# Altium schematic symbol library WR-PHD_Socket Header_1.27mm.SchLib: 24 symbols
Pins are listed as number, name and electrical type; pins without a type are passive.

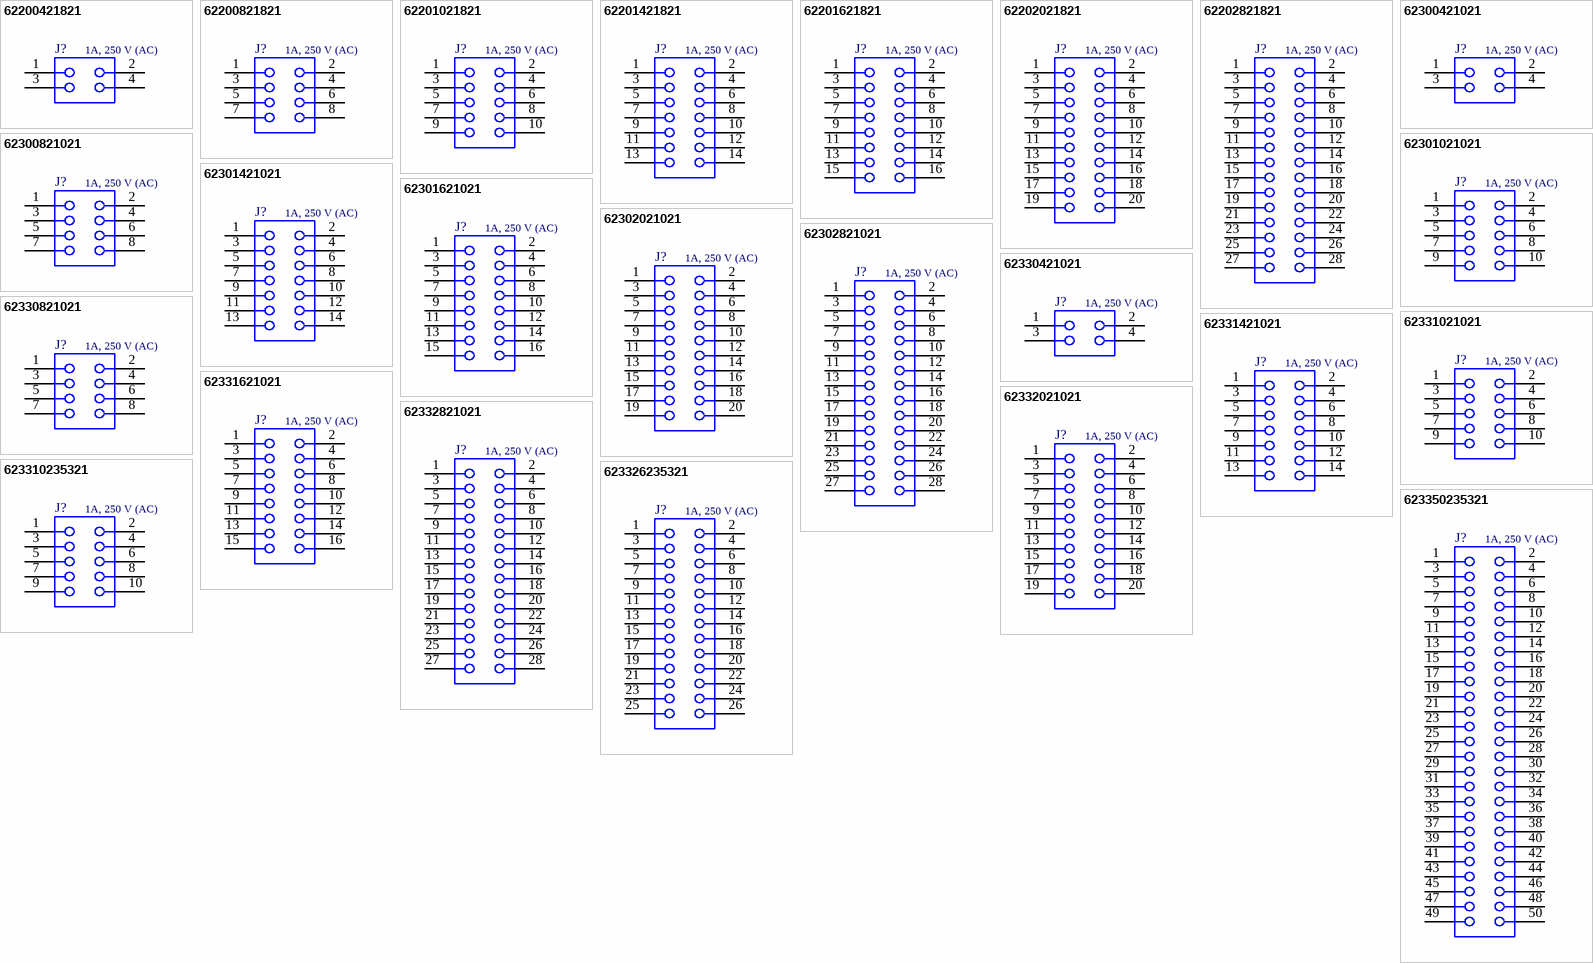
[diagram p0: symbols 62200421821 to 623350235321]

## 62200421821
designator J?, comment 1A, 250 V (AC)
WR-PHD Socket Header, THT, pitch 1.27mm, Dual Row, Vertical, 4p; Manufacturer Part Number: 62200421821; Manufacturer: Wurth Elektronik; Pin Number: 4; Working Voltage: 250VAC; Withstanding Voltage: 500VAC; Contact Resistance: 20mOhm; ComponentLink1Description: Datasheet; ComponentLink1URL: https://www.we-online.com/catalog/datasheet/62200421821.pdf; Published Date: May 2020; Pitch: 1.27mm; Packaging: Tube; Gender: Socket Header; Rated Current: 1A; Row Number: Dual; Orientation: Vertical; Supplier 1 URL: N/A; Supplier 2 URL: N/A; Supplier 3 URL: N/A; LCSC Part #: N/A; Mount: THT; Operating Temperature Max: + 85 C; Operating Temperature Min: - 25 C; Supplier 1: Mouser; Supplier 1 Part Number: N/A; Supplier 2: Digi-Key; Supplier 2 Part Number: N/A; Supplier 3: thegioiic; Supplier 3 Part Number: N/A; Value: 1A, 250 V (AC)
footprint 62200421821
pins: 1, 2, 3, 4

## 62200821821
designator J?, comment 1A, 250 V (AC)
WR-PHD Socket Header, THT, pitch 1.27mm, Dual Row, Vertical, 8p; Manufacturer Part Number: 62200821821; Manufacturer: Wurth Elektronik; Pin Number: 8; Working Voltage: 250VAC; Withstanding Voltage: 500VAC; Contact Resistance: 20mOhm; ComponentLink1Description: Datasheet; ComponentLink1URL: https://www.we-online.com/catalog/datasheet/62200821821.pdf; Published Date: May 2020; Pitch: 1.27mm; Packaging: Tube; Gender: Socket Header; Rated Current: 1A; Row Number: Dual; Orientation: Vertical; Supplier 1 URL: N/A; Supplier 2 URL: N/A; Supplier 3 URL: N/A; LCSC Part #: N/A; Mount: THT; Operating Temperature Max: + 85 C; Operating Temperature Min: - 25 C; Supplier 1: Mouser; Supplier 1 Part Number: N/A; Supplier 2: Digi-Key; Supplier 2 Part Number: N/A; Supplier 3: thegioiic; Supplier 3 Part Number: N/A; Value: 1A, 250 V (AC)
footprint 62200821821
pins: 1, 2, 3, 4, 5, 6, 7, 8

## 62201021821
designator J?, comment 1A, 250 V (AC)
WR-PHD Socket Header, THT, pitch 1.27mm, Dual Row, Vertical, 10p; Manufacturer Part Number: 62201021821; Manufacturer: Wurth Elektronik; Pin Number: 10; Working Voltage: 250VAC; Withstanding Voltage: 500VAC; Contact Resistance: 20mOhm; ComponentLink1Description: Datasheet; ComponentLink1URL: https://www.we-online.com/catalog/datasheet/62201021821.pdf; Published Date: May 2020; Pitch: 1.27mm; Packaging: Tube; Gender: Socket Header; Rated Current: 1A; Row Number: Dual; Orientation: Vertical; Supplier 1 URL: N/A; Supplier 2 URL: N/A; Supplier 3 URL: N/A; LCSC Part #: N/A; Mount: THT; Operating Temperature Max: + 85 C; Operating Temperature Min: - 25 C; Supplier 1: Mouser; Supplier 1 Part Number: N/A; Supplier 2: Digi-Key; Supplier 2 Part Number: N/A; Supplier 3: thegioiic; Supplier 3 Part Number: N/A; Value: 1A, 250 V (AC)
footprint 62201021821
pins: 1, 2, 3, 4, 5, 6, 7, 8, 9, 10

## 62201421821
designator J?, comment 1A, 250 V (AC)
WR-PHD Socket Header, THT, pitch 1.27mm, Dual Row, Vertical, 14p; Manufacturer Part Number: 62201421821; Manufacturer: Wurth Elektronik; Pin Number: 14; Working Voltage: 250VAC; Withstanding Voltage: 500VAC; Contact Resistance: 20mOhm; ComponentLink1Description: Datasheet; ComponentLink1URL: https://www.we-online.com/catalog/datasheet/62201421821.pdf; Published Date: May 2020; Pitch: 1.27mm; Packaging: Tube; Gender: Socket Header; Rated Current: 1A; Row Number: Dual; Orientation: Vertical; Supplier 1 URL: N/A; Supplier 2 URL: N/A; Supplier 3 URL: N/A; LCSC Part #: N/A; Mount: THT; Operating Temperature Max: + 85 C; Operating Temperature Min: - 25 C; Supplier 1: Mouser; Supplier 1 Part Number: N/A; Supplier 2: Digi-Key; Supplier 2 Part Number: N/A; Supplier 3: thegioiic; Supplier 3 Part Number: N/A; Value: 1A, 250 V (AC)
footprint 62201421821
pins: 1, 2, 3, 4, 5, 6, 7, 8, 9, 10, 11, 12, 13, 14

## 62201621821
designator J?, comment 1A, 250 V (AC)
WR-PHD Socket Header, THT, pitch 1.27mm, Dual Row, Vertical, 16p; Manufacturer Part Number: 62201621821; Manufacturer: Wurth Elektronik; Pin Number: 16; Working Voltage: 250VAC; Withstanding Voltage: 500VAC; Contact Resistance: 20mOhm; ComponentLink1Description: Datasheet; ComponentLink1URL: https://www.we-online.com/catalog/datasheet/62201621821.pdf; Published Date: May 2020; Pitch: 1.27mm; Packaging: Tube; Gender: Socket Header; Rated Current: 1A; Row Number: Dual; Orientation: Vertical; Supplier 1 URL: N/A; Supplier 2 URL: N/A; Supplier 3 URL: N/A; LCSC Part #: N/A; Mount: THT; Operating Temperature Max: + 85 C; Operating Temperature Min: - 25 C; Supplier 1: Mouser; Supplier 1 Part Number: N/A; Supplier 2: Digi-Key; Supplier 2 Part Number: N/A; Supplier 3: thegioiic; Supplier 3 Part Number: N/A; Value: 1A, 250 V (AC)
footprint 62201621821
pins: 1, 2, 3, 4, 5, 6, 7, 8, 9, 10, 11, 12, 13, 14, 15, 16

## 62202021821
designator J?, comment 1A, 250 V (AC)
WR-PHD Socket Header, THT, pitch 1.27mm, Dual Row, Vertical, 20p; Manufacturer Part Number: 62202021821; Manufacturer: Wurth Elektronik; Pin Number: 20; Working Voltage: 250VAC; Withstanding Voltage: 500VAC; Contact Resistance: 20mOhm; ComponentLink1Description: Datasheet; ComponentLink1URL: https://www.we-online.com/catalog/datasheet/62202021821.pdf; Published Date: May 2020; Pitch: 1.27mm; Packaging: Tube; Gender: Socket Header; Rated Current: 1A; Row Number: Dual; Orientation: Vertical; Supplier 1 URL: N/A; Supplier 2 URL: N/A; Supplier 3 URL: N/A; LCSC Part #: N/A; Mount: THT; Operating Temperature Max: + 85 C; Operating Temperature Min: - 25 C; Supplier 1: Mouser; Supplier 1 Part Number: N/A; Supplier 2: Digi-Key; Supplier 2 Part Number: N/A; Supplier 3: thegioiic; Supplier 3 Part Number: N/A; Value: 1A, 250 V (AC)
footprint 62202021821
pins: 1, 2, 3, 4, 5, 6, 7, 8, 9, 10, 11, 12, 13, 14, 15, 16, 17, 18, 19, 20

## 62202821821
designator J?, comment 1A, 250 V (AC)
WR-PHD Socket Header, THT, pitch 1.27mm, Dual Row, Vertical, 28p; Manufacturer Part Number: 62202821821; Manufacturer: Wurth Elektronik; Pin Number: 28; Working Voltage: 250VAC; Withstanding Voltage: 500VAC; Contact Resistance: 20mOhm; ComponentLink1Description: Datasheet; ComponentLink1URL: https://www.we-online.com/catalog/datasheet/62202821821.pdf; Published Date: May 2020; Pitch: 1.27mm; Packaging: Tube; Gender: Socket Header; Rated Current: 1A; Row Number: Dual; Orientation: Vertical; Supplier 1 URL: N/A; Supplier 2 URL: N/A; Supplier 3 URL: N/A; LCSC Part #: N/A; Mount: THT; Operating Temperature Max: + 85 C; Operating Temperature Min: - 25 C; Supplier 1: Mouser; Supplier 1 Part Number: N/A; Supplier 2: Digi-Key; Supplier 2 Part Number: N/A; Supplier 3: thegioiic; Supplier 3 Part Number: N/A; Value: 1A, 250 V (AC)
footprint 62202821821
pins: 1, 2, 3, 4, 5, 6, 7, 8, 9, 10, 11, 12, 13, 14, 15, 16, 17, 18, 19, 20, 21, 22, 23, 24, 25, 26, 27, 28

## 62300421021
designator J?, comment 1A, 250 V (AC)
WR-PHD Socket Header, SMT, pitch 1.27mm, Dual Row, Vertical, 4p; Manufacturer Part Number: 62300421021; Manufacturer: Wurth Elektronik; Pin Number: 4; Working Voltage: 250VAC; Withstanding Voltage: 500VAC; Contact Resistance: 20mOhm; ComponentLink1Description: Datasheet; ComponentLink1URL: https://www.we-online.com/catalog/datasheet/62300421021.pdf; Published Date: May 2020; Pitch: 1.27mm; Packaging: Tube; Gender: Socket Header; Rated Current: 1A; Row Number: Dual; Orientation: Vertical; Supplier 1 URL: N/A; Supplier 2 URL: N/A; Supplier 3 URL: N/A; LCSC Part #: N/A; Mount: SMD/SMT; Operating Temperature Max: + 85 C; Operating Temperature Min: - 25 C; Supplier 1: Mouser; Supplier 1 Part Number: N/A; Supplier 2: Digi-Key; Supplier 2 Part Number: N/A; Supplier 3: thegioiic; Supplier 3 Part Number: N/A; Value: 1A, 250 V (AC)
footprint 62300421021
pins: 1, 2, 3, 4

## 62300821021
designator J?, comment 1A, 250 V (AC)
WR-PHD Socket Header, SMT, pitch 1.27mm, Dual Row, Vertical, 8p; Manufacturer Part Number: 62300821021; Manufacturer: Wurth Elektronik; Pin Number: 8; Working Voltage: 250VAC; Withstanding Voltage: 500VAC; Contact Resistance: 20mOhm; ComponentLink1Description: Datasheet; ComponentLink1URL: https://www.we-online.com/catalog/datasheet/62300821021.pdf; Published Date: May 2020; Pitch: 1.27mm; Packaging: Tube; Gender: Socket Header; Rated Current: 1A; Row Number: Dual; Orientation: Vertical; Supplier 1 URL: N/A; Supplier 2 URL: N/A; Supplier 3 URL: N/A; LCSC Part #: N/A; Mount: SMD/SMT; Operating Temperature Max: + 85 C; Operating Temperature Min: - 25 C; Supplier 1: Mouser; Supplier 1 Part Number: N/A; Supplier 2: Digi-Key; Supplier 2 Part Number: N/A; Supplier 3: thegioiic; Supplier 3 Part Number: N/A; Value: 1A, 250 V (AC)
footprint 62300821021
pins: 1, 2, 3, 4, 5, 6, 7, 8

## 62301021021
designator J?, comment 1A, 250 V (AC)
WR-PHD Socket Header, SMT, pitch 1.27mm, Dual Row, Vertical, 10p; Manufacturer Part Number: 62301021021; Manufacturer: Wurth Elektronik; Pin Number: 10; Working Voltage: 250VAC; Withstanding Voltage: 500VAC; Contact Resistance: 20mOhm; ComponentLink1Description: Datasheet; ComponentLink1URL: https://www.we-online.com/catalog/datasheet/62301021021.pdf; Published Date: May 2020; Pitch: 1.27mm; Packaging: Tube; Gender: Socket Header; Rated Current: 1A; Row Number: Dual; Orientation: Vertical; Supplier 1 URL: N/A; Supplier 2 URL: N/A; Supplier 3 URL: N/A; LCSC Part #: N/A; Mount: SMD/SMT; Operating Temperature Max: + 85 C; Operating Temperature Min: - 25 C; Supplier 1: Mouser; Supplier 1 Part Number: N/A; Supplier 2: Digi-Key; Supplier 2 Part Number: N/A; Supplier 3: thegioiic; Supplier 3 Part Number: N/A; Value: 1A, 250 V (AC)
footprint 62301021021
pins: 1, 2, 3, 4, 5, 6, 7, 8, 9, 10

## 62301421021
designator J?, comment 1A, 250 V (AC)
WR-PHD Socket Header, SMT, pitch 1.27mm, Dual Row, Vertical, 14p; Manufacturer Part Number: 62301421021; Manufacturer: Wurth Elektronik; Pin Number: 14; Working Voltage: 250VAC; Withstanding Voltage: 500VAC; Contact Resistance: 20mOhm; ComponentLink1Description: Datasheet; ComponentLink1URL: https://www.we-online.com/catalog/datasheet/62301421021.pdf; Published Date: May 2020; Pitch: 1.27mm; Packaging: Tube; Gender: Socket Header; Rated Current: 1A; Row Number: Dual; Orientation: Vertical; Supplier 1 URL: N/A; Supplier 2 URL: N/A; Supplier 3 URL: N/A; LCSC Part #: N/A; Mount: SMD/SMT; Operating Temperature Max: + 85 C; Operating Temperature Min: - 25 C; Supplier 1: Mouser; Supplier 1 Part Number: N/A; Supplier 2: Digi-Key; Supplier 2 Part Number: N/A; Supplier 3: thegioiic; Supplier 3 Part Number: N/A; Value: 1A, 250 V (AC)
footprint 62301421021
pins: 1, 2, 3, 4, 5, 6, 7, 8, 9, 10, 11, 12, 13, 14

## 62301621021
designator J?, comment 1A, 250 V (AC)
WR-PHD Socket Header, SMT, pitch 1.27mm, Dual Row, Vertical, 16p; Manufacturer Part Number: 62301621021; Manufacturer: Wurth Elektronik; Pin Number: 16; Working Voltage: 250VAC; Withstanding Voltage: 500VAC; Contact Resistance: 20mOhm; ComponentLink1Description: Datasheet; ComponentLink1URL: https://www.we-online.com/catalog/datasheet/62301621021.pdf; Published Date: May 2020; Pitch: 1.27mm; Packaging: Tube; Gender: Socket Header; Rated Current: 1A; Row Number: Dual; Orientation: Vertical; Supplier 1 URL: N/A; Supplier 2 URL: N/A; Supplier 3 URL: N/A; LCSC Part #: N/A; Mount: SMD/SMT; Operating Temperature Max: + 85 C; Operating Temperature Min: - 25 C; Supplier 1: Mouser; Supplier 1 Part Number: N/A; Supplier 2: Digi-Key; Supplier 2 Part Number: N/A; Supplier 3: thegioiic; Supplier 3 Part Number: N/A; Value: 1A, 250 V (AC)
footprint 62301621021
pins: 1, 2, 3, 4, 5, 6, 7, 8, 9, 10, 11, 12, 13, 14, 15, 16

## 62302021021
designator J?, comment 1A, 250 V (AC)
WR-PHD Socket Header, SMT, pitch 1.27mm, Dual Row, Vertical, 20p; Manufacturer Part Number: 62302021021; Manufacturer: Wurth Elektronik; Pin Number: 20; Working Voltage: 250VAC; Withstanding Voltage: 500VAC; Contact Resistance: 20mOhm; ComponentLink1Description: Datasheet; ComponentLink1URL: https://www.we-online.com/catalog/datasheet/62302021021.pdf; Published Date: May 2020; Pitch: 1.27mm; Packaging: Tube; Gender: Socket Header; Rated Current: 1A; Row Number: Dual; Orientation: Vertical; Supplier 1 URL: N/A; Supplier 2 URL: N/A; Supplier 3 URL: N/A; LCSC Part #: N/A; Mount: SMD/SMT; Operating Temperature Max: + 85 C; Operating Temperature Min: - 25 C; Supplier 1: Mouser; Supplier 1 Part Number: N/A; Supplier 2: Digi-Key; Supplier 2 Part Number: N/A; Supplier 3: thegioiic; Supplier 3 Part Number: N/A; Value: 1A, 250 V (AC)
footprint 62302021021
pins: 1, 2, 3, 4, 5, 6, 7, 8, 9, 10, 11, 12, 13, 14, 15, 16, 17, 18, 19, 20

## 62302821021
designator J?, comment 1A, 250 V (AC)
WR-PHD Socket Header, SMT, pitch 1.27mm, Dual Row, Vertical, 28p; Manufacturer Part Number: 62302821021; Manufacturer: Wurth Elektronik; Pin Number: 28; Working Voltage: 250VAC; Withstanding Voltage: 500VAC; Contact Resistance: 20mOhm; ComponentLink1Description: Datasheet; ComponentLink1URL: https://www.we-online.com/catalog/datasheet/62302821021.pdf; Published Date: May 2020; Pitch: 1.27mm; Packaging: Tube; Gender: Socket Header; Rated Current: 1A; Row Number: Dual; Orientation: Vertical; Supplier 1 URL: N/A; Supplier 2 URL: N/A; Supplier 3 URL: N/A; LCSC Part #: N/A; Mount: SMD/SMT; Operating Temperature Max: + 85 C; Operating Temperature Min: - 25 C; Supplier 1: Mouser; Supplier 1 Part Number: N/A; Supplier 2: Digi-Key; Supplier 2 Part Number: N/A; Supplier 3: thegioiic; Supplier 3 Part Number: N/A; Value: 1A, 250 V (AC)
footprint 62302821021
pins: 1, 2, 3, 4, 5, 6, 7, 8, 9, 10, 11, 12, 13, 14, 15, 16, 17, 18, 19, 20, 21, 22, 23, 24, 25, 26, 27, 28

## 62330421021
designator J?, comment 1A, 250 V (AC)
WR-PHD Socket Header, SMT, pitch 1.27mm, Dual Row, Vertical, 4p; Manufacturer Part Number: 62330421021; Manufacturer: Wurth Elektronik; Pin Number: 4; Working Voltage: 250VAC; Withstanding Voltage: 500VAC; Contact Resistance: 20mOhm; ComponentLink1Description: Datasheet; ComponentLink1URL: https://www.we-online.com/catalog/datasheet/62330421021.pdf; Published Date: May 2020; Pitch: 1.27mm; Packaging: Tape and Reel; Gender: Socket Header; Rated Current: 1A; Row Number: Dual; Orientation: Vertical; Supplier 1 URL: N/A; Supplier 2 URL: N/A; Supplier 3 URL: N/A; LCSC Part #: N/A; Mount: SMD/SMT; Operating Temperature Max: + 85 C; Operating Temperature Min: - 25 C; Supplier 1: Mouser; Supplier 1 Part Number: N/A; Supplier 2: Digi-Key; Supplier 2 Part Number: N/A; Supplier 3: thegioiic; Supplier 3 Part Number: N/A; Value: 1A, 250 V (AC)
footprint 62330421021
pins: 1, 2, 3, 4

## 62330821021
designator J?, comment 1A, 250 V (AC)
WR-PHD Socket Header, SMT, pitch 1.27mm, Dual Row, Vertical, 8p; Manufacturer Part Number: 62330821021; Manufacturer: Wurth Elektronik; Pin Number: 8; Working Voltage: 250VAC; Withstanding Voltage: 500VAC; Contact Resistance: 20mOhm; ComponentLink1Description: Datasheet; ComponentLink1URL: https://www.we-online.com/catalog/datasheet/62330821021.pdf; Published Date: May 2020; Pitch: 1.27mm; Packaging: Tape and Reel; Gender: Socket Header; Rated Current: 1A; Row Number: Dual; Orientation: Vertical; Supplier 1 URL: N/A; Supplier 2 URL: N/A; Supplier 3 URL: N/A; LCSC Part #: N/A; Mount: SMD/SMT; Operating Temperature Max: + 85 C; Operating Temperature Min: - 25 C; Supplier 1: Mouser; Supplier 1 Part Number: N/A; Supplier 2: Digi-Key; Supplier 2 Part Number: N/A; Supplier 3: thegioiic; Supplier 3 Part Number: N/A; Value: 1A, 250 V (AC)
footprint 62330821021
pins: 1, 2, 3, 4, 5, 6, 7, 8

## 62331021021
designator J?, comment 1A, 250 V (AC)
WR-PHD Socket Header, SMT, pitch 1.27mm, Dual Row, Vertical, 10p; Manufacturer Part Number: 62331021021; Manufacturer: Wurth Elektronik; Pin Number: 10; Working Voltage: 250VAC; Withstanding Voltage: 500VAC; Contact Resistance: 20mOhm; ComponentLink1Description: Datasheet; ComponentLink1URL: https://www.we-online.com/catalog/datasheet/62331021021.pdf; Published Date: May 2020; Pitch: 1.27mm; Packaging: Tape and Reel; Gender: Socket Header; Rated Current: 1A; Row Number: Dual; Orientation: Vertical; Supplier 1 URL: N/A; Supplier 2 URL: N/A; Supplier 3 URL: N/A; LCSC Part #: N/A; Mount: SMD/SMT; Operating Temperature Max: + 85 C; Operating Temperature Min: - 25 C; Supplier 1: Mouser; Supplier 1 Part Number: N/A; Supplier 2: Digi-Key; Supplier 2 Part Number: N/A; Supplier 3: thegioiic; Supplier 3 Part Number: N/A; Value: 1A, 250 V (AC)
footprint 62331021021
pins: 1, 2, 3, 4, 5, 6, 7, 8, 9, 10

## 62331421021
designator J?, comment 1A, 250 V (AC)
WR-PHD Socket Header, SMT, pitch 1.27mm, Dual Row, Vertical, 14p; Manufacturer Part Number: 62331421021; Manufacturer: Wurth Elektronik; Pin Number: 14; Working Voltage: 250VAC; Withstanding Voltage: 500VAC; Contact Resistance: 20mOhm; ComponentLink1Description: Datasheet; ComponentLink1URL: https://www.we-online.com/catalog/datasheet/62331421021.pdf; Published Date: May 2020; Pitch: 1.27mm; Packaging: Tape and Reel; Gender: Socket Header; Rated Current: 1A; Row Number: Dual; Orientation: Vertical; Supplier 1 URL: N/A; Supplier 2 URL: N/A; Supplier 3 URL: N/A; LCSC Part #: N/A; Mount: SMD/SMT; Operating Temperature Max: + 85 C; Operating Temperature Min: - 25 C; Supplier 1: Mouser; Supplier 1 Part Number: N/A; Supplier 2: Digi-Key; Supplier 2 Part Number: N/A; Supplier 3: thegioiic; Supplier 3 Part Number: N/A; Value: 1A, 250 V (AC)
footprint 62331421021
pins: 1, 2, 3, 4, 5, 6, 7, 8, 9, 10, 11, 12, 13, 14

## 62331621021
designator J?, comment 1A, 250 V (AC)
WR-PHD Socket Header, SMT, pitch 1.27mm, Dual Row, Vertical, 16p; Manufacturer Part Number: 62331621021; Manufacturer: Wurth Elektronik; Pin Number: 16; Working Voltage: 250VAC; Withstanding Voltage: 500VAC; Contact Resistance: 20mOhm; ComponentLink1Description: Datasheet; ComponentLink1URL: https://www.we-online.com/catalog/datasheet/62331621021.pdf; Published Date: May 2020; Pitch: 1.27mm; Packaging: Tape and Reel; Gender: Socket Header; Rated Current: 1A; Row Number: Dual; Orientation: Vertical; Supplier 1 URL: N/A; Supplier 2 URL: N/A; Supplier 3 URL: N/A; LCSC Part #: N/A; Mount: SMD/SMT; Operating Temperature Max: + 85 C; Operating Temperature Min: - 25 C; Supplier 1: Mouser; Supplier 1 Part Number: N/A; Supplier 2: Digi-Key; Supplier 2 Part Number: N/A; Supplier 3: thegioiic; Supplier 3 Part Number: N/A; Value: 1A, 250 V (AC)
footprint 62331621021
pins: 1, 2, 3, 4, 5, 6, 7, 8, 9, 10, 11, 12, 13, 14, 15, 16

## 62332021021
designator J?, comment 1A, 250 V (AC)
WR-PHD Socket Header, SMT, pitch 1.27mm, Dual Row, Vertical, 20p; Manufacturer Part Number: 62332021021; Manufacturer: Wurth Elektronik; Pin Number: 20; Working Voltage: 250VAC; Withstanding Voltage: 500VAC; Contact Resistance: 20mOhm; ComponentLink1Description: Datasheet; ComponentLink1URL: https://www.we-online.com/catalog/datasheet/62332021021.pdf; Published Date: May 2020; Pitch: 1.27mm; Packaging: Tape and Reel; Gender: Socket Header; Rated Current: 1A; Row Number: Dual; Orientation: Vertical; Supplier 1 URL: N/A; Supplier 2 URL: N/A; Supplier 3 URL: N/A; LCSC Part #: N/A; Mount: SMD/SMT; Operating Temperature Max: + 85 C; Operating Temperature Min: - 25 C; Supplier 1: Mouser; Supplier 1 Part Number: N/A; Supplier 2: Digi-Key; Supplier 2 Part Number: N/A; Supplier 3: thegioiic; Supplier 3 Part Number: N/A; Value: 1A, 250 V (AC)
footprint 62332021021
pins: 1, 2, 3, 4, 5, 6, 7, 8, 9, 10, 11, 12, 13, 14, 15, 16, 17, 18, 19, 20

## 62332821021
designator J?, comment 1A, 250 V (AC)
WR-PHD Socket Header, SMT, pitch 1.27mm, Dual Row, Vertical, 28p; Manufacturer Part Number: 62332821021; Manufacturer: Wurth Elektronik; Pin Number: 28; Working Voltage: 250VAC; Withstanding Voltage: 500VAC; Contact Resistance: 20mOhm; ComponentLink1Description: Datasheet; ComponentLink1URL: https://www.we-online.com/catalog/datasheet/62332821021.pdf; Published Date: May 2020; Pitch: 1.27mm; Packaging: Tape and Reel; Gender: Socket Header; Rated Current: 1A; Row Number: Dual; Orientation: Vertical; Supplier 1 URL: N/A; Supplier 2 URL: N/A; Supplier 3 URL: N/A; LCSC Part #: N/A; Mount: SMD/SMT; Operating Temperature Max: + 85 C; Operating Temperature Min: - 25 C; Supplier 1: Mouser; Supplier 1 Part Number: N/A; Supplier 2: Digi-Key; Supplier 2 Part Number: N/A; Supplier 3: thegioiic; Supplier 3 Part Number: N/A; Value: 1A, 250 V (AC)
footprint 62332821021
pins: 1, 2, 3, 4, 5, 6, 7, 8, 9, 10, 11, 12, 13, 14, 15, 16, 17, 18, 19, 20, 21, 22, 23, 24, 25, 26, 27, 28

## 623310235321
designator J?, comment 1A, 250 V (AC)
WR-PHD Socket Header, SMT, pitch 1.27mm, Dual Row, Vertical, 10p; Manufacturer Part Number: 623310235321; Manufacturer: Wurth Elektronik; Pin Number: 10; Working Voltage: 250VAC; Withstanding Voltage: 500VAC; Contact Resistance: 20mOhm; ComponentLink1Description: Datasheet; ComponentLink1URL: https://www.we-online.com/catalog/datasheet/623310235321.pdf; Published Date: May 2020; Pitch: 1.27mm; Packaging: Tape and Reel; Gender: Socket Header; Rated Current: 1A; Row Number: Dual; Orientation: Vertical; Supplier 1 URL: N/A; Supplier 2 URL: N/A; Supplier 3 URL: N/A; LCSC Part #: N/A; Mount: SMD/SMT; Operating Temperature Max: + 85 C; Operating Temperature Min: - 25 C; Supplier 1: Mouser; Supplier 1 Part Number: N/A; Supplier 2: Digi-Key; Supplier 2 Part Number: N/A; Supplier 3: thegioiic; Supplier 3 Part Number: N/A; Value: 1A, 250 V (AC)
footprint 623310235321
pins: 1, 2, 3, 4, 5, 6, 7, 8, 9, 10

## 623326235321
designator J?, comment 1A, 250 V (AC)
WR-PHD Socket Header, SMT, pitch 1.27mm, Dual Row, Vertical, 26p; Manufacturer Part Number: 623326235321; Manufacturer: Wurth Elektronik; Pin Number: 26; Working Voltage: 250VAC; Withstanding Voltage: 500VAC; Contact Resistance: 20mOhm; ComponentLink1Description: Datasheet; ComponentLink1URL: https://www.we-online.com/catalog/datasheet/623326235321.pdf; Published Date: May 2020; Pitch: 1.27mm; Packaging: Tape and Reel; Gender: Socket Header; Rated Current: 1A; Row Number: Dual; Orientation: Vertical; Supplier 1 URL: N/A; Supplier 2 URL: N/A; Supplier 3 URL: N/A; LCSC Part #: N/A; Mount: SMD/SMT; Operating Temperature Max: + 85 C; Operating Temperature Min: - 25 C; Supplier 1: Mouser; Supplier 1 Part Number: N/A; Supplier 2: Digi-Key; Supplier 2 Part Number: N/A; Supplier 3: thegioiic; Supplier 3 Part Number: N/A; Value: 1A, 250 V (AC)
footprint 623326235321
pins: 1, 2, 3, 4, 5, 6, 7, 8, 9, 10, 11, 12, 13, 14, 15, 16, 17, 18, 19, 20, 21, 22, 23, 24, 25, 26

## 623350235321
designator J?, comment 1A, 250 V (AC)
WR-PHD Socket Header, SMT, pitch 1.27mm, Dual Row, Vertical, 50p; Manufacturer Part Number: 623350235321; Manufacturer: Wurth Elektronik; Pin Number: 50; Working Voltage: 250VAC; Withstanding Voltage: 500VAC; Contact Resistance: 20mOhm; ComponentLink1Description: Datasheet; ComponentLink1URL: https://www.we-online.com/catalog/datasheet/623350235321.pdf; Published Date: May 2020; Pitch: 1.27mm; Packaging: Tape and Reel; Gender: Socket Header; Rated Current: 1A; Row Number: Dual; Orientation: Vertical; Supplier 1 URL: N/A; Supplier 2 URL: N/A; Supplier 3 URL: N/A; LCSC Part #: N/A; Mount: SMD/SMT; Operating Temperature Max: + 85 C; Operating Temperature Min: - 25 C; Supplier 1: Mouser; Supplier 1 Part Number: N/A; Supplier 2: Digi-Key; Supplier 2 Part Number: N/A; Supplier 3: thegioiic; Supplier 3 Part Number: N/A; Value: 1A, 250 V (AC)
footprint 623350235321
pins: 1, 2, 3, 4, 5, 6, 7, 8, 9, 10, 11, 12, 13, 14, 15, 16, 17, 18, 19, 20, 21, 22, 23, 24, 25, 26, 27, 28, 29, 30, 31, 32, 33, 34, 35, 36, 37, 38, 39, 40, 41, 42, 43, 44, 45, 46, 47, 48, 49, 50